# EAGLE library part MOLEX-73776-0201 (library PTS_Board_Lib)
MOLEX branch VHDCI SMT Receptacle
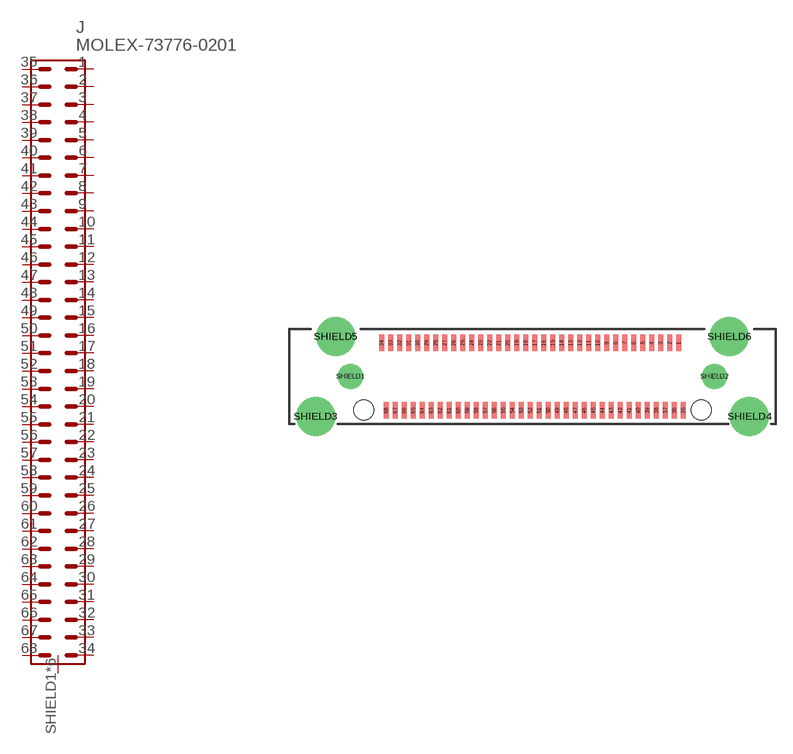
[diagram p2: symbol with the pads of MOLEX-73776-0201; footprint MOLEX-73776-0201]

Designator prefix J

## MOLEX-73776-0201  [MOLEX-73776-0201]
1  1
2  2
3  3
4  4
5  5
6  6
7  7
8  8
9  9
10  10
11  11
12  12
13  13
14  14
15  15
16  16
17  17
18  18
19  19
20  20
21  21
22  22
23  23
24  24
25  25
26  26
27  27
28  28
29  29
30  30
31  31
32  32
33  33
34  34
35  35
36  36
37  37
38  38
39  39
40  40
41  41
42  42
43  43
44  44
45  45
46  46
47  47
48  48
49  49
50  50
51  51
52  52
53  53
54  54
55  55
56  56
57  57
58  58
59  59
60  60
61  61
62  62
63  63
64  64
65  65
66  66
67  67
68  68
SHIELD1  SHIELD  pwr
SHIELD2  SHIELD  pwr
SHIELD3  SHIELD  pwr
SHIELD4  SHIELD  pwr
SHIELD5  SHIELD  pwr
SHIELD6  SHIELD  pwr

## Footprint MOLEX-73776-0201 (pad centres in mm)
VHDCI SMD Receptacle
smd 0.45 x 1.5: 1 13,3; 2 12.2,3; 3 11.4,3; 4 10.6,3; 5 9.8,3; 6 9,3; 7 8.2,3; 8 7.4,3; 9 6.6,3; 10 5.8,3; 11 5,3; 12 4.2,3; 13 3.4,3; 14 2.6,3; 15 1.8,3; 16 1,3; 17 0.2,3; 18 -0.6,3; 19 -1.4,3; 20 -2.2,3; 21 -3,3; 22 -3.8,3; 23 -4.6,3; 24 -5.4,3; 25 -6.2,3; 26 -7,3; 27 -7.8,3; 28 -8.6,3; 29 -9.4,3; 30 -10.2,3; 31 -11,3; 32 -11.8,3; 33 -12.6,3; 34 -13.4,3; 35 13.4,-3; 36 12.6,-3; 37 11.8,-3; 38 11,-3; 39 10.2,-3; 40 9.4,-3; 41 8.6,-3; 42 7.8,-3; 43 7,-3; 44 6.2,-3; 45 5.4,-3; 46 4.6,-3; 47 3.8,-3; 48 3,-3; 49 2.2,-3; 50 1.4,-3; 51 0.6,-3; 52 -0.2,-3; 53 -1,-3; 54 -1.8,-3; 55 -2.6,-3; 56 -3.4,-3; 57 -4.2,-3; 58 -5,-3; 59 -5.8,-3; 60 -6.6,-3; 61 -7.4,-3; 62 -8.2,-3; 63 -9,-3; 64 -9.8,-3; 65 -10.6,-3; 66 -11.4,-3; 67 -12.2,-3; 68 -13,-3
drill 1.2 pad 2.25: SHIELD1 -16.175,0; SHIELD2 16.175,0
drill 2.44 pad 3.24: SHIELD3 -19.275,-3.55; SHIELD4 19.275,-3.55; SHIELD5 -17.485,3.55; SHIELD6 17.485,3.55
hole 1.75 at -14.995,-2.98
hole 1.75 at 14.995,-2.98